# Altium footprint library TO.PcbLib: 2 footprints
Each footprint in its own frame and in the unit in brackets; x right, y up, seen from the top. Pads: shape width x height; smd on the part's side, far side on the other; paste and mask are expansions set on the pad; w line width, h text height; cw(c..) or ccw(c..) is an arc to the next point about the centre after c.
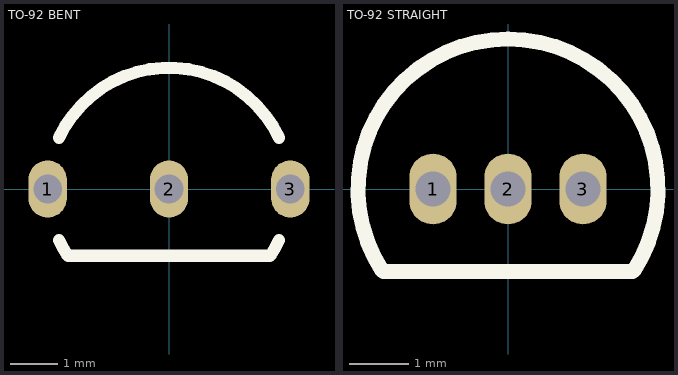
[diagram p0: the footprints below, top view; thin cyan lines are the x and y axes]

## TO-92 BENT [mm] "BENT LEAD"
pads (3):
  oval 0.8x1.2 hole 0.6: 1(-2.54,0) 2(0,0) 3(2.54,0)
Top Overlay:
  lines w0.254: -2.302,-1.073 ccw(c0,0) -2.133,-1.38 ; -2.302,1.073 cw(c0,0) 2.302,1.073 ; -2.108,-1.397 2.108,-1.397 ; 2.131,-1.382 ccw(c0,0) 2.302,-1.073

## TO-92 STRAIGHT [mm] "STRAIGHT LEAD"
pads (3):
  oval 0.8x1.2 hole 0.6: 1(-1.27,0) 2(0,0) 3(1.27,0)
Top Overlay:
  lines w0.254: -2.133,-1.38 cw(c0,0) 2.133,-1.38 ; -2.108,-1.397 2.108,-1.397